# Altium footprint library moma_altium_PCBlibrary.PcbLib: 28 footprints (part 1 of 2)
Each footprint in its own frame and in the unit in brackets; x right, y up, seen from the top. Pads: shape width x height; smd on the part's side, far side on the other; paste and mask are expansions set on the pad; w line width, h text height; cw(c..) or ccw(c..) is an arc to the next point about the centre after c.
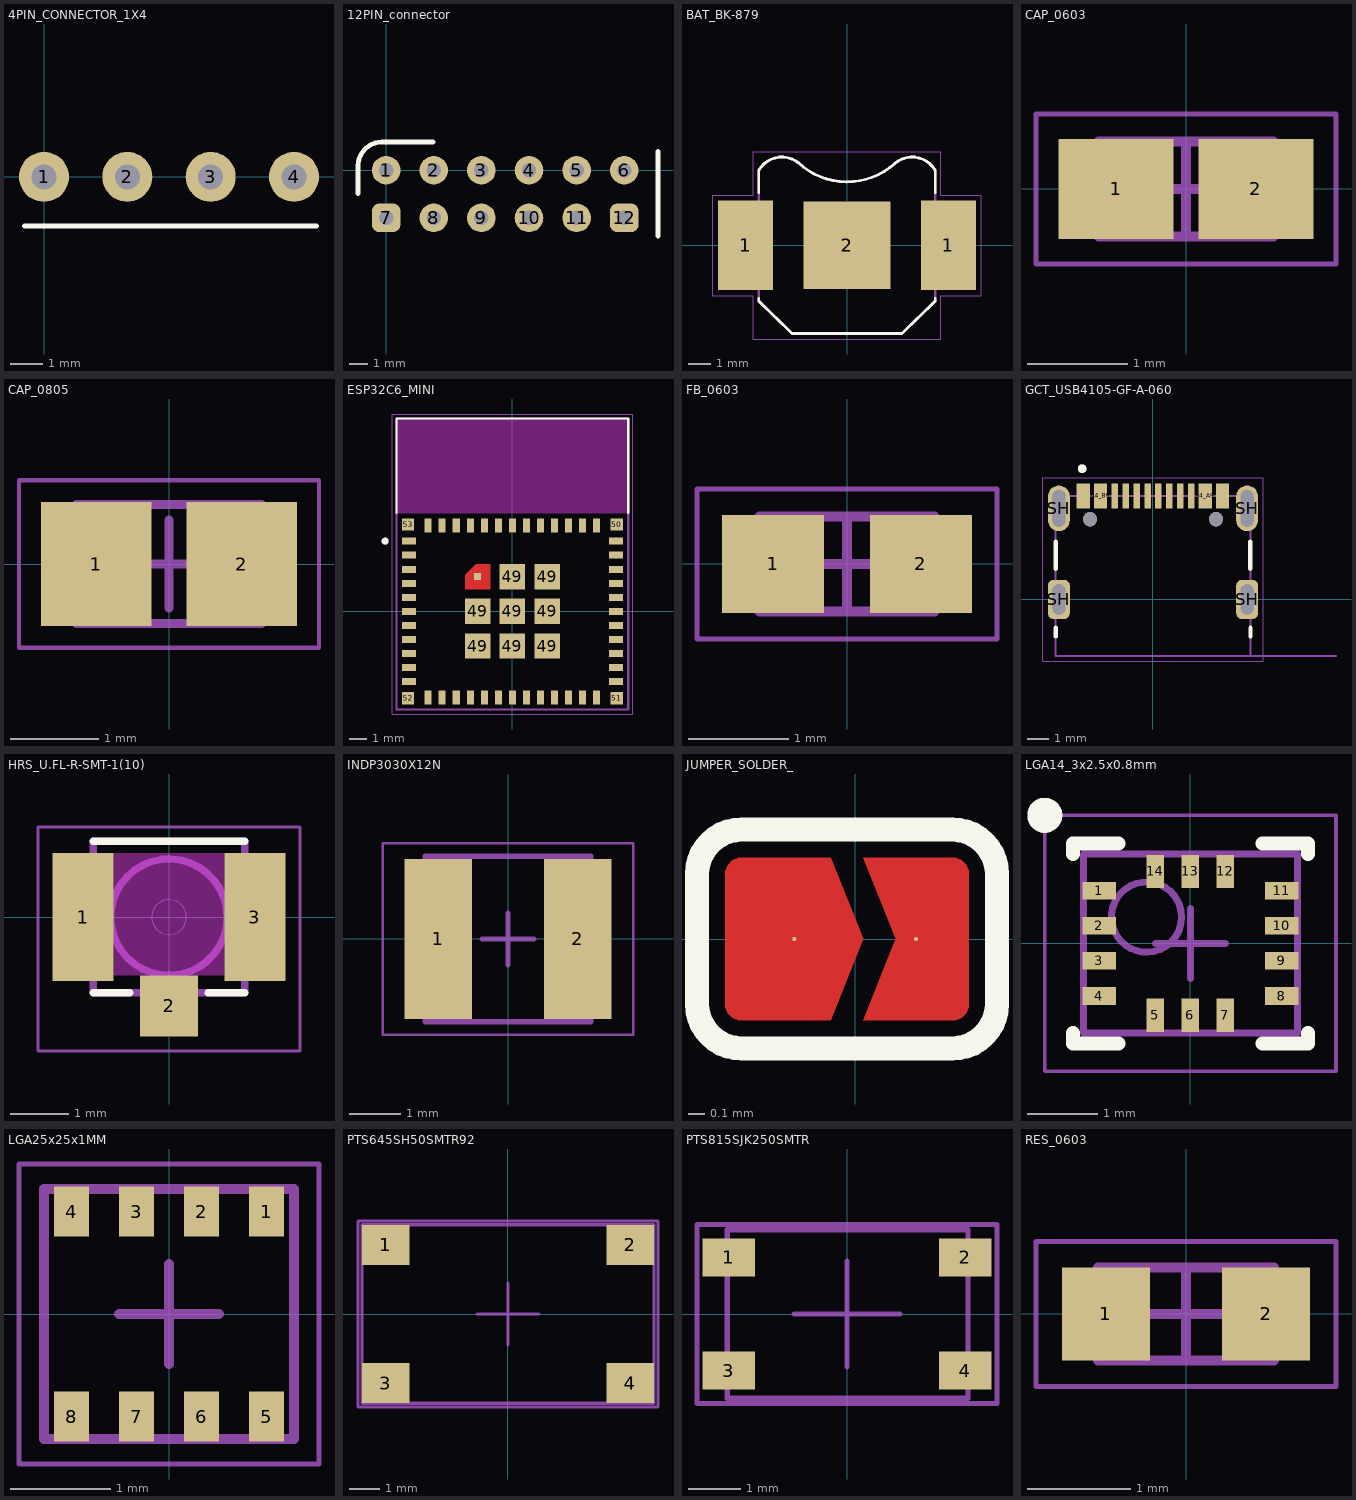
[diagram p0: the footprints below, top view; thin cyan lines are the x and y axes]

## 4PIN_CONNECTOR_1X4 [mil]
pads (4):
  round 60 hole 30: 1(0,0) 2(100,0) 3(200,0) 4(300,0)
Top Overlay:
  lines w5.91: -23.62,-59.06 326.77,-59.06

## 12PIN_connector [mil]
pads (12):
  round 60 hole 30: 1(0,0) 2(100,0) 3(200,0) 4(300,0) 5(400,0) 6(500,0) 8(100,-100) 9(200,-100) 10(300,-100) 11(400,-100)
  rrect50% 60x60 hole 30: 7(0,-100) 12(500,-100)
Top Overlay:
  lines w10: -59.06,-49.21 -59.06,9.06 cw(c-9.06,9.06) -9.06,59.06 98.43,59.06 ; 570.87,-137.8 570.87,39.37

## BAT_BK-879 [mm]
height 3.02
pads (3):
  rect 2.5x4.06 smd: 1(-4.6,0) 1(4.6,0)
  rect 3.96x3.96 smd paste-3: 2(0,0)
Top Overlay:
  lines w0.127: -4,-2.4 -4,-2.54 -2.5,-4 2.5,-4 4,-2.54 4,-2.4 ; -4,2.4 -4,3.4 ; -3.997,3.406 cw(c-2.957,2.806) -2.185,3.726 ; -2.211,3.749 ccw(c0,6.12) 2.169,3.711 ; 2.185,3.726 cw(c2.957,2.806) 3.997,3.406 ; 4,2.4 4,3.4
Mechanical 13:
  lines w0.127: -4,3.4 -4,1.5 -5.35,1.5 -5.35,-1.5 -4,-1.5 -4,-2.54 -2.5,-4 2.5,-4 4,-2.54 4,-1.5 5.35,-1.5 5.35,1.5 4,1.5 4,3.4 ; -3.997,3.406 cw(c-2.957,2.806) -2.185,3.726 ; -2.211,3.749 ccw(c0,6.12) 2.169,3.711 ; 2.185,3.726 cw(c2.957,2.806) 3.997,3.406
Mechanical 15:
  lines w0.05: -6.1,-2.28 -6.1,2.28 -4.25,2.28 -4.25,4.25 4.25,4.25 4.25,2.28 6.1,2.28 6.1,-2.28 4.25,-2.28 4.25,-4.25 -4.25,-4.25 -4.25,-2.28 -6.1,-2.28
3D body "step_temp.STEP": height 3.02, standoff 0, extent -5.35,-4 5.35,4

## CAP_0603 [mm]
height 1
pads (2):
  rect 1.15x1 smd: 1(-0.7,0) 2(0.7,0)
Mechanical 13:
  lines w0.1: -0.875,-0.475 -0.875,0.475 0.875,0.475 0.875,-0.475 -0.875,-0.475
Mechanical 15:
  lines w0.05: -1.5,-0.75 -1.5,0.75 1.5,0.75 1.5,-0.75 -1.5,-0.75
  lines w0.1: -0.475,0 0.475,0 ; 0,-0.475 0,0.475
3D body "CAP_0603.step": height 1, standoff 0, extent -0.875,-0.475 0.875,0.475

## CAP_0805 [mm] "Capacitor SMD 0805"
height 1.27
pads (2):
  rect 1.25x1.4 smd: 1(-0.825,0) 2(0.825,0)
Mechanical 13:
  lines w0.1: -1.05,-0.675 -1.05,0.675 1.05,0.675 1.05,-0.675 -1.05,-0.675
Mechanical 15:
  lines w0.05: -1.7,-0.95 -1.7,0.95 1.7,0.95 1.7,-0.95 -1.7,-0.95
  lines w0.1: -0.5,0 0.5,0 ; 0,-0.5 0,0.5
3D body "CAP_0805.step": height 1.27, standoff 0, extent -1.05,-0.675 1.05,0.675

## ESP32C6_MINI [mm] "Footprint for ESP32-C6-mini module"
pads (61):
  rect 0.8x0.4 smd: 1(-5.9,4) 2(-5.9,3.2) 3(-5.9,2.4) 4(-5.9,1.6) 5(-5.9,0.8) 6(-5.9,0) 7(-5.9,-0.8) 8(-5.9,-1.6) 9(-5.9,-2.4) 10(-5.9,-3.2) 11(-5.9,-4) 25(5.9,-4) 26(5.9,-3.2) 27(5.9,-2.4) 28(5.9,-1.6) 29(5.9,-0.8) 30(5.9,0) 31(5.9,0.8) 32(5.9,1.6) 33(5.9,2.4) 34(5.9,3.2) 35(5.9,4)
  rect 0.4x0.8 smd: 12(-4.8,-4.9) 13(-4,-4.9) 14(-3.2,-4.9) 15(-2.4,-4.9) 16(-1.6,-4.9) 17(-0.8,-4.9) 18(0,-4.9) 19(0.8,-4.9) 20(1.6,-4.9) 21(2.4,-4.9) 22(3.2,-4.9) 23(4,-4.9) 24(4.8,-4.9) 36(4.8,4.9) 37(4,4.9) 38(3.2,4.9) 39(2.4,4.9) 40(1.6,4.9) 41(0.8,4.9) 42(0,4.9) 43(-0.8,4.9) 44(-1.6,4.9) 45(-2.4,4.9) 46(-3.2,4.9) 47(-4,4.9) 48(-4.8,4.9)
  rect 1.45x1.45 smd: 49(-1.975,-1.975) 49(-1.975,0) 49(0,-1.975) 49(0,0) 49(0,1.975) 49(1.975,-1.975) 49(1.975,0) 49(1.975,1.975)
  rect 0.4x0.4 smd paste-1 mask+0: 49(-1.975,1.975)
  rect 0.7x0.7 smd: 50(5.95,4.95) 51(5.95,-4.95) 52(-5.95,-4.95) 53(-5.95,4.95)
Top Layer:
  region: -1.25,1.25 -2.7,1.25 -2.7,2.1 -2.1,2.7 -1.25,2.7
Top Overlay:
  circle w0.2: c-7.25,4 r0.1
  lines w0.127: -6.6,5.62 -6.6,11 6.6,11 6.6,5.62
Top Paste:
  region: -1.25,1.25 -2.7,1.25 -2.7,2.1 -2.1,2.7 -1.25,2.7
Top Solder:
  region: -1.15,1.15 -2.8,1.15 -2.8,2.15 -2.15,2.8 -1.15,2.8
Keep-Out Layer:
  region: 6.6,5.6 -6.6,5.6 -6.6,11 6.6,11
Mechanical 13:
  circle w0.2: c-7.25,4 r0.1
  lines w0.127: -6.6,-5.6 -6.6,11 6.6,11 6.6,-5.6 -6.6,-5.6
Mechanical 15:
  lines w0.05: -6.85,-5.85 6.85,-5.85 6.85,11.25 -6.85,11.25 -6.85,-5.85
3D body "step_temp.STEP": height 2.55, standoff 0, extent -6.595,-5.59 6.605,11.01

## FB_0603 [mm] "Chip Inductor, 2-Leads, Body 1.60x0.80mm, IPC Medium Density"
height 0.8
pads (2):
  rect 1.02x0.98 smd: 1(-0.74,0) 2(0.74,0)
Mechanical 13:
  lines w0.1: -0.875,-0.475 0.875,-0.475 0.875,0.475 -0.875,0.475 -0.875,-0.475
Mechanical 15:
  lines w0.05: -1.5,-0.75 1.5,-0.75 1.5,0.75 -1.5,0.75 -1.5,-0.75
  lines w0.1: -0.475,0 0.475,0 ; 0,-0.475 0,0.475
3D body "FB_0603.step": height 0.8, standoff 0, extent -0.875,-0.475 0.875,0.475

## GCT_USB4105-GF-A-060 [mm]
height 3.31
pads (18):
  rect 0.6x1.15 smd: A1_B12(-3.2,4.755) A4_B9(-2.4,4.755) B1_A12(3.2,4.755) B4_A9(2.4,4.755)
  rect 0.3x1.15 smd: A5(-1.25,4.755) A6(-0.25,4.755) A7(0.25,4.755) A8(1.25,4.755) B5(1.75,4.755) B6(0.75,4.755) B7(-0.75,4.755) B8(-1.75,4.755)
  rrect50% 1x1.8 hole 0.6 slot 1.4 at 90 deg: SH(-4.32,0) SH(4.32,0)
  oval 1x2.1 hole 0.6 slot 1.7 at 90 deg: SH(-4.32,4.18) SH(4.32,4.18)
  round 0.65 hole 0.65 unplated: ""(-2.89,3.68) ""(2.89,3.68)
Top Overlay:
  circle w0.2: c-3.25,6 r0.1
  lines w0.2: -4.47,-1.7 -4.47,-1.6 -4.47,-1.4 -4.47,-1.3 ; -4.47,1.4 -4.47,2.65 ; 4.47,1.4 4.47,2.65 ; 4.475,-1.7 4.475,-1.6 4.475,-1.4 4.475,-1.3
Mechanical 13:
  circle w0.2: c-3.25,6 r0.1
  lines w0.1: 8.4,-2.6 4.47,-2.6 ; 4.47,-2.6 4.47,4.75 -4.47,4.75 -4.47,-2.6 4.47,-2.6
  text "PCB EDGE" at 5.4,-2.5 h0.41
Mechanical 15:
  lines w0.05: -5.07,-2.85 -5.07,5.58 5.07,5.58 5.07,-2.85 -5.07,-2.85
3D body "step_temp.STEP": height 3.31, standoff -0.85, extent -4.47,-2.6 4.47,5.11

## HRS_U.FL-R-SMT-1(10) [mm]
pads (3):
  rect 1.05x2.2 smd: 1(-1.475,0) 3(1.475,0)
  rect 1x1.05 smd: 2(0,-1.525)
Top Overlay:
  lines w0.127: -1.3,-1.3 -0.67,-1.3 ; -1.3,1.3 1.3,1.3 ; 0.67,-1.3 1.3,-1.3
Keep-Out Layer:
  region: 0.95,-1 -0.95,-1 -0.95,1.1 0.95,1.1
Mechanical 13:
  circle w0: c0,0 r0.3
  circle w0.127: c0,0 r1
  lines w0.127: -1.3,-1.3 -1.3,1.3 1.3,1.3 1.3,-1.3 -1.3,-1.3
Mechanical 15:
  lines w0.05: -2.25,-2.3 -2.25,1.55 2.25,1.55 2.25,-2.3 -2.25,-2.3
3D body "U.FL-R-SMT-1(10).STEP": height 1.25, standoff 0, extent -1.5,-1.55 1.5,1.55

## INDP3030X12N [mm] "Precision Wire Wound Inductor, 2-Leads, Body 3.00x3.00mm, IPC Medium Density"
height 1.2
pads (2):
  rect 1.3x3.1 smd: 1(-1.35,0) 2(1.35,0)
Mechanical 13:
  lines w0.1: -1.6,-1.6 1.6,-1.6 1.6,1.6 -1.6,1.6 -1.6,-1.6
Mechanical 15:
  lines w0.05: -2.425,-1.85 2.425,-1.85 2.425,1.85 -2.425,1.85 -2.425,-1.85
  lines w0.1: -0.5,0 0.5,0 ; 0,-0.5 0,0.5
3D body "INDP3030X12N.step": height 1.3, standoff 0, extent -1.6,-1.5 1.6,1.5

## JUMPER_SOLDER_ [mil]
pads (2):
  round 1 smd: 1(-14.76,0) 2(14.76,0)
Top Layer:
  region: 27.56,15.75 27.56,16.53 26.96,17.98 25.85,19.09 24.4,19.68 23.62,19.68 23.62,19.69 1.97,19.69 9.84,0 1.97,-19.68 23.62,-19.68 24.41,-19.68 25.85,-19.09 26.96,-17.98 27.56,-16.53 27.56,-15.75
  region: -31.5,15.72 -31.5,16.51 -30.91,17.96 -29.8,19.08 -28.35,19.68 -27.56,19.68 -5.91,19.68 1.97,0 -5.91,-19.68 -27.56,-19.68 -28.34,-19.68 -29.79,-19.09 -30.9,-17.98 -31.5,-16.53 -31.5,-15.75
Top Overlay:
  lines w5.91: -38.39,-15.75 ccw(c-27.56,-15.75) -27.56,-26.57 23.62,-26.57 ccw(c23.62,-15.75) 34.45,-15.75 34.45,15.75 ccw(c23.62,15.75) 23.62,26.57 -17.72,26.57 -27.56,26.57 ccw(c-27.56,15.75) -38.39,15.75 -38.39,4.92 -38.39,-15.75

## LGA14_3x2.5x0.8mm [mm] "LGA, 14-Leads, Body 3.00x2.50mm, Pitch 0.50mm, Thermal Pad 0.10x0.10mm, IPC Medium Density"
height 0.87
pads (14):
  rect 0.475x0.25 smd mask+0.102: 1(-1.3,0.75)
  rect 0.475x0.25 smd: 2(-1.3,0.25) 3(-1.3,-0.25) 4(-1.3,-0.75) 8(1.3,-0.75) 9(1.3,-0.25) 10(1.3,0.25) 11(1.3,0.75)
  rect 0.25x0.475 smd: 5(-0.5,-1.025) 6(0,-1.025) 7(0.5,-1.025) 12(0.5,1.025) 13(0,1.025) 14(-0.5,1.025)
Top Overlay:
  circle w0.25: c-2.075,1.825 r0.125
  lines w0.2: -1.675,-1.275 -1.675,-1.425 -1.025,-1.425 ; -1.675,1.275 -1.675,1.425 -1.025,1.425 ; 1.025,-1.425 1.675,-1.425 1.675,-1.275 ; 1.025,1.425 1.675,1.425 1.675,1.275
Mechanical 13:
  circle w0.1: c-0.625,0.375 r0.5
  lines w0.1: -1.525,-1.275 1.525,-1.275 1.525,1.275 -1.525,1.275 -1.525,-1.275
Mechanical 15:
  lines w0.05: -2.075,-1.825 2.075,-1.825 2.075,1.825 -2.075,1.825 -2.075,-1.825
  lines w0.1: -0.5,0 0.5,0 ; 0,-0.5 0,0.5
3D body "LGA14_3x2.5x0.8mm.step": height 0.87, standoff 0, extent -1.635,-1.385 1.635,1.385

## LGA25x25x1MM [mm] "LGA, 9-Leads, Body 2.50x2.50mmx1.00mm, Pitch 0.65mm"
height 1
pads (8):
  rect 0.35x0.5 smd: 1(0.975,1.025) 2(0.325,1.025) 3(-0.325,1.025) 4(-0.975,1.025) 5(0.975,-1.025) 6(0.325,-1.025) 7(-0.325,-1.025) 8(-0.975,-1.025)
Mechanical 13:
  lines w0.1: -1.25,-1.25 1.25,-1.25 1.25,1.25 -1.25,1.25 -1.25,-1.25
Mechanical 15:
  lines w0.05: -1.5,-1.5 1.5,-1.5 1.5,1.5 -1.5,1.5 -1.5,-1.5
  lines w0.1: -0.5,0 0.5,0 ; 0,-0.5 0,0.5
3D body "BME280.STEP": height 1, standoff 0, extent -1.25,-1.25 1.25,1.25

## PTS645SH50SMTR92 [mm] "This is layout for tactile switch PTS645 SMT G Type"
pads (4):
  rect 1.55x1.3 smd: 1(-3.975,2.25) 2(3.975,2.25) 3(-3.975,-2.25) 4(3.975,-2.25)
Mechanical 13:
  lines w0.1: -4.75,-2.9 4.75,-2.9 4.75,2.9 -4.75,2.9 -4.75,-2.9
Mechanical 15:
  lines w0.1: -1,0 1,0 ; 0,-1 0,1 ; -4.875,-3.025 4.875,-3.025 4.875,3.025 -4.875,3.025 -4.875,-3.025
3D body "PTS645SH50SMTR92LFS.stp": height 5, standoff 0, extent -4.5,-3 4.5,3

## PTS815SJK250SMTR [mm] "This is layout for tactile switch PTS815 SMT G Type"
pads (4):
  rect 1x0.725 smd: 1(-2.25,1.075) 2(2.25,1.075) 3(-2.25,-1.075) 4(2.25,-1.075)
Mechanical 13:
  lines w0.1: -2.275,-1.6 2.3,-1.6 2.3,1.6 -2.275,1.6 -2.275,-1.6
Mechanical 15:
  lines w0.1: -1,0 1,0 ; 0,-1 0,1 ; -2.85,-1.7 2.85,-1.7 2.85,1.7 -2.85,1.7 -2.85,-1.7
3D body "PTS815_SJK_250_SMTR_LFS.stp": height 2.5, standoff 0, extent -2.3,-1.6 2.3,1.6

## RES_0603 [mm] "Chip Resistor, 2-Leads, Body 1.60x0.80mm, IPC Medium Density"
height 0.55
pads (2):
  rect 0.85x0.9 smd: 1(-0.775,0) 2(0.775,0)
Mechanical 13:
  lines w0.1: -0.85,-0.45 0.85,-0.45 0.85,0.45 -0.85,0.45 -0.85,-0.45
Mechanical 15:
  lines w0.05: -1.45,-0.7 1.45,-0.7 1.45,0.7 -1.45,0.7 -1.45,-0.7
  lines w0.1: -0.45,0 0.45,0 ; 0,-0.45 0,0.45
3D body "RES_0603.step": height 0.55, standoff 0, extent -0.85,-0.45 0.85,0.45